# Altium schematic symbol library Schlib1.SchLib: 6 symbols
Pins are listed as number, name and electrical type; pins without a type are passive.

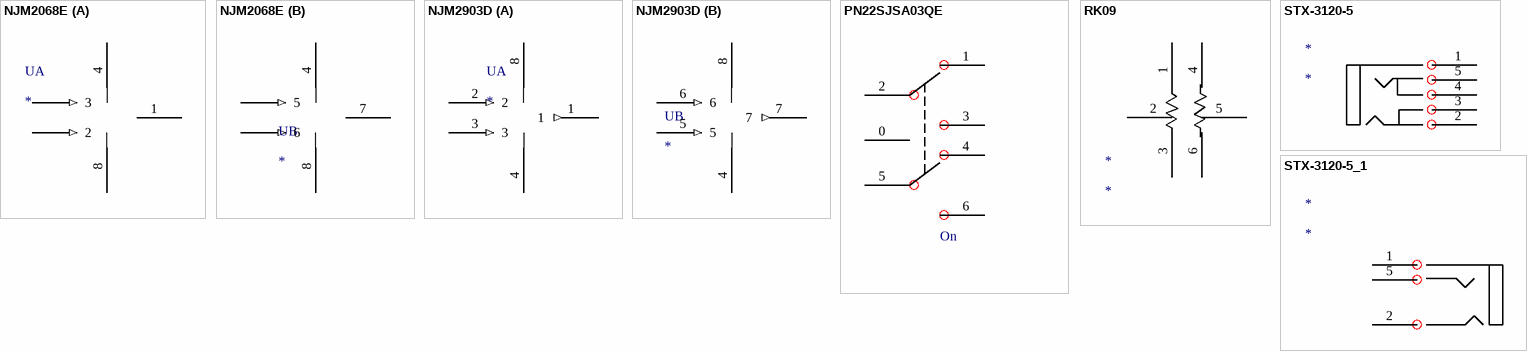
[diagram p0: symbols NJM2068E to STX-3120-5_1]

## NJM2068E
designator U
part A pins: 1, 2 (in), 3 (in), 4 (power), 8 (power)
part B pins: 4 (power), 5 (in), 6 (in), 7, 8 (power)

## NJM2903D
designator U
part A pins: 1 (out), 2 (in), 3 (in), 4, 8
part B pins: 4, 5 (in), 6 (in), 7 (out), 8

## PN22SJSA03QE
designator *
pins: 0, 1, 2, 3, 4, 5, 6
text: On

## RK09
designator *
pins: 1, 2, 3, 4, 5, 6

## STX-3120-5
designator *
pins: 1, 2, 3, 4, 5

## STX-3120-5_1
designator *
pins: 1, 2, 5